# EAGLE library part ADS7843 (library Chao)
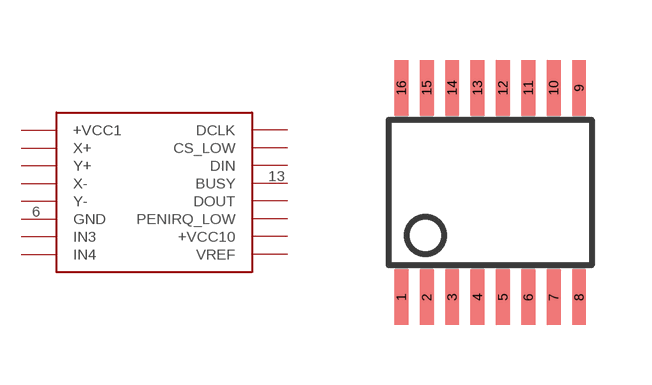
[diagram p4: symbol with the pads of SSOP16BU; footprint SSOP16BU]

Designator prefix -

## ADS7843  [SSOP16BU]
1  +VCC1  pas
2  X+  in
3  Y+  in
4  X-  in
5  Y-  in
6  GND  pas
7  IN3  in
8  IN4  in
9  VREF  in
10  +VCC10  pas
11  PENIRQ_LOW
12  DOUT  out
13  BUSY  out
14  DIN  in
15  CS_LOW  in
16  DCLK  in

## Footprint SSOP16BU (pad centres in mm)
Small Shrink Outline Package Source: http://focus.ti.com/lit/ml/msoi004e/msoi004e.pdf
smd 0.348 x 1.397: 1 -2.223,-2.619; 2 -1.588,-2.62; 3 -0.953,-2.62; 4 -0.318,-2.62; 5 0.318,-2.62; 6 0.953,-2.62; 7 1.588,-2.62; 8 2.223,-2.62; 9 2.223,2.62; 10 1.588,2.62; 11 0.953,2.62; 12 0.318,2.62; 13 -0.318,2.62; 14 -0.953,2.62; 15 -1.588,2.62; 16 -2.223,2.62